# Altium footprint library LED_Shield_PCB_v11.PcbLib: 14 footprints
Each footprint in its own frame and in the unit in brackets; x right, y up, seen from the top. Pads: shape width x height; smd on the part's side, far side on the other; paste and mask are expansions set on the pad; w line width, h text height; cw(c..) or ccw(c..) is an arc to the next point about the centre after c.
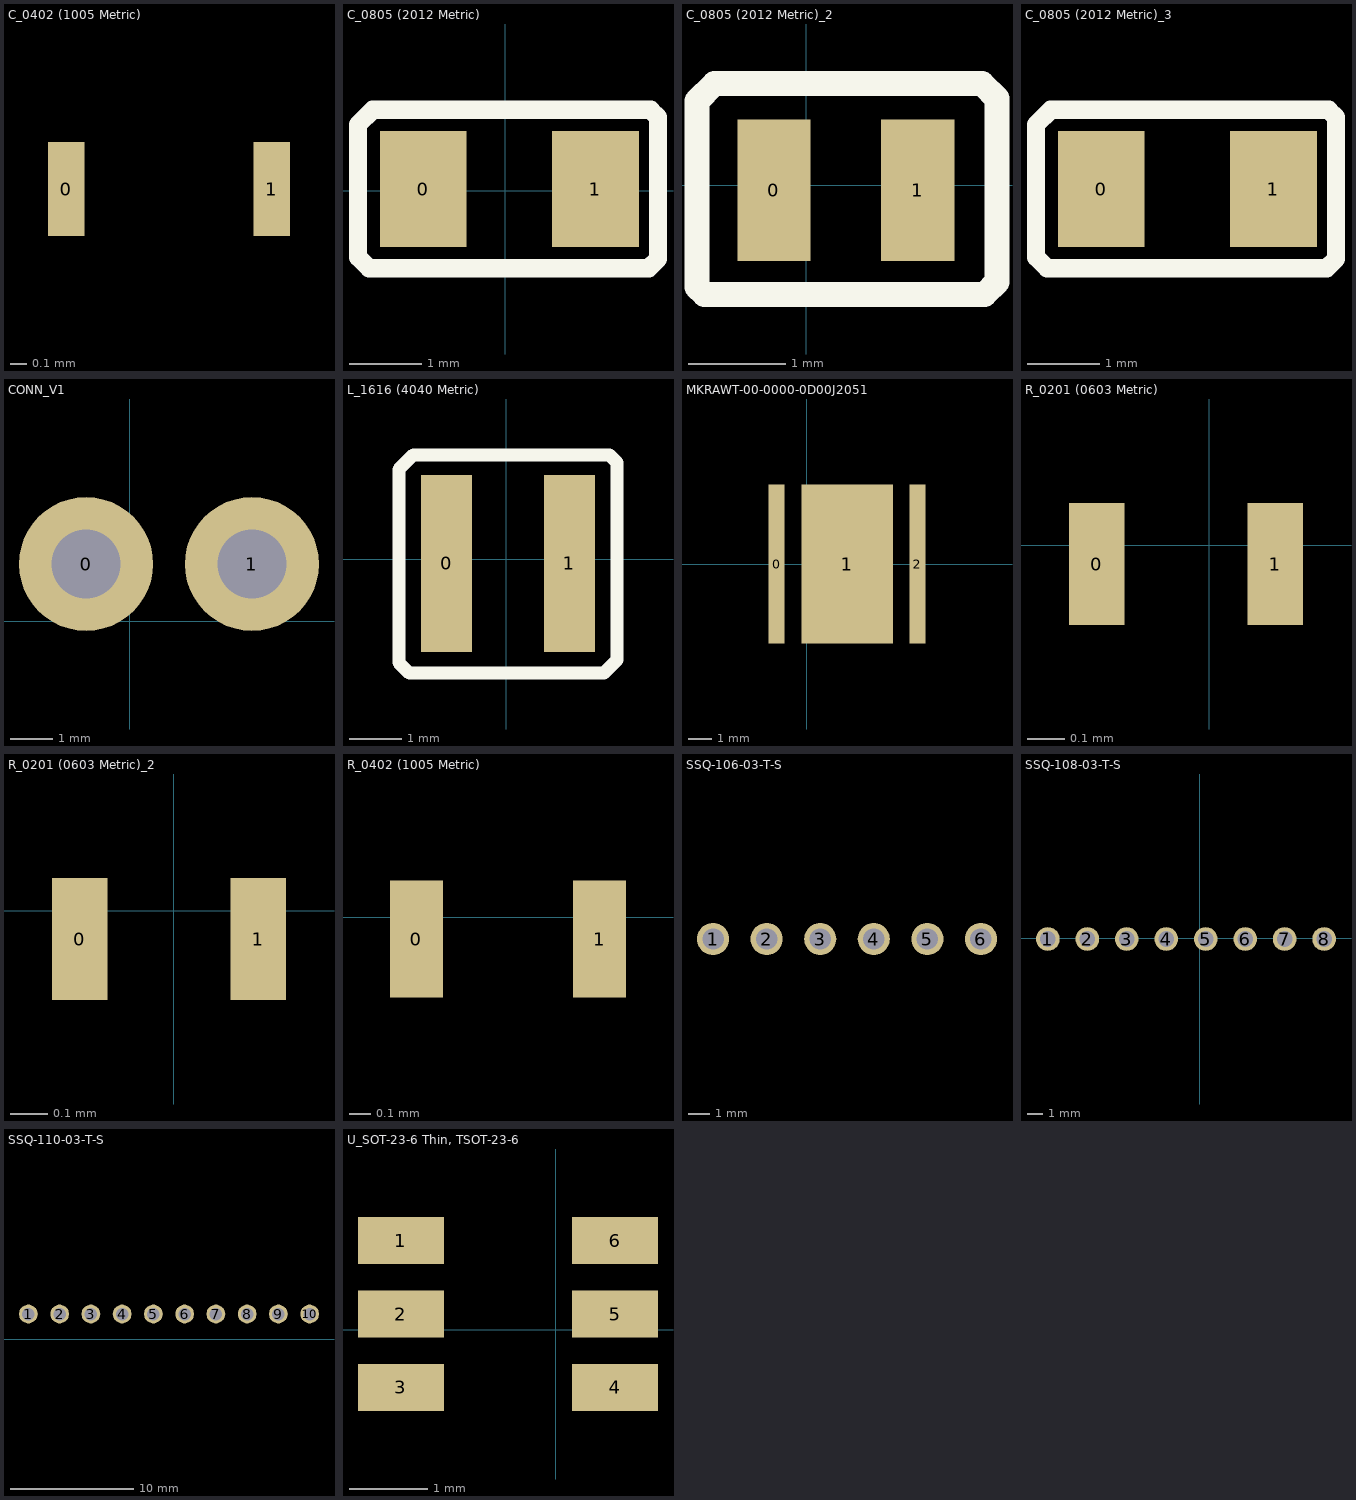
[diagram p0: the footprints below, top view; thin cyan lines are the x and y axes]

## C_0402 (1005 Metric) [mil]
pads (2):
  rect 8.5x22 smd: 0(-17205,1633.68) 1(-17157,1633.68)
Multi-Layer:

## C_0805 (2012 Metric) [mm]
pads (2):
  rect 1.2x1.6 smd: 0(-1.131,0.025) 1(1.245,0.025)
Top Overlay:
  lines w0.254: -2.032,-0.914 -2.032,0.914 -1.829,1.118 2.007,1.118 2.108,1.016 2.108,-0.94 1.981,-1.067 -1.88,-1.067 -2.032,-0.914

## C_0805 (2012 Metric)_2 [mil]
pads (2):
  rect 29.53x57.09 smd: 0(-13,-2) 1(45,-2)
Top Overlay:
  lines w10: -44,-41 -41,-44 72,-44 77,-39 77,35 71,41 -37,41 -44,34 -44,-41

## C_0805 (2012 Metric)_3 [mm]
pads (2):
  rect 1.2x1.6 smd: 0(-454.445,491.871) 1(-452.069,491.871)
Top Overlay:
  lines w0.254: -455.346,490.931 -455.193,490.779 -451.333,490.779 -451.206,490.906 -451.206,492.862 -451.307,492.963 -455.143,492.963 -455.346,492.76 -455.346,490.931

## CONN_V1 [mm]
pads (2):
  round 3.2 hole 1.65: 0(-1.041,1.372) 1(2.921,1.372)
3D body "B2PS-VH-LF--SN---3DModel-STEP-56544.STEP": height 8.5, standoff -3.6, extent -2.983,-13.552 4.877,1.918

## L_1616 (4040 Metric) [mil]
pads (2):
  rect 38.58x133.86 smd: 0(-45,-3) 1(48,-3)
Top Overlay:
  lines w10: -81,-78 -73,-86 74,-86 84,-76 84,73 78,79 -70,79 -81,68 -81,-78

## MKRAWT-00-0000-0D00J2051 [mm]
pads (3):
  rect 0.7x6.76 smd: 0(-1.295,0) 2(4.699,0)
  rect 3.9x6.76 smd: 1(1.714,0)

## R_0201 (0603 Metric) [mil]
pads (2):
  rect 5.91x12.99 smd: 0(-12,-2) 1(7,-2)

## R_0201 (0603 Metric)_2 [mil]
pads (2):
  rect 5.91x12.99 smd: 0(-10,-3) 1(9,-3)

## R_0402 (1005 Metric) [mil]
pads (2):
  rect 9.84x21.65 smd: 0(-110,-4) 1(-76,-4)

## SSQ-106-03-T-S [mil]
pads (6):
  round 60 hole 40: 1(-39299,733) 2(-39199,733) 3(-39099,733) 4(-38999,733) 5(-38899,733) 6(-38799,733)

## SSQ-108-03-T-S [mil]
pads (8):
  round 60 hole 40: 1(-385,-2) 2(-285,-2) 3(-185,-2) 4(-85,-2) 5(15,-2) 6(115,-2) 7(215,-2) 8(315,-2)

## SSQ-110-03-T-S [mil]
pads (10):
  round 60 hole 40: 1(340,80) 2(440,80) 3(540,80) 4(640,80) 5(740,80) 6(840,80) 7(940,80) 8(1040,80) 9(1140,80) 10(1240,80)

## U_SOT-23-6 Thin, TSOT-23-6 [mil]
pads (6):
  rect 43.31x23.62 smd: 1(-78,45) 2(-78,8) 3(-78,-29) 4(30,-29) 5(30,8) 6(30,45)